# EAGLE library part NHD-C0216CIZ (library logic-supply)
Newhaven Display NHD-C0216CIZ I2C 16x2 character LCD.
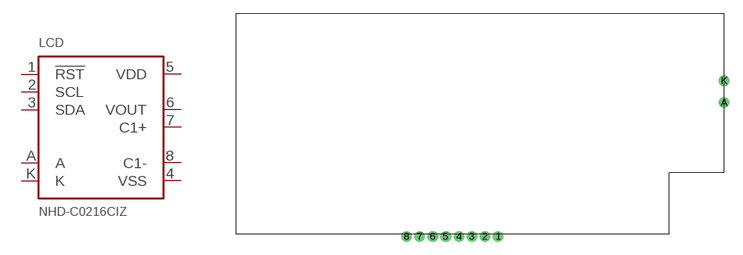
[diagram p42: symbol with the pads of NHD-C0216CIZ; footprint NHD-C0216CIZ]

Designator prefix LCD

## NHD-C0216CIZ  [NHD-C0216CIZ]
1  !RST
2  SCL
3  SDA
4  VSS  pwr
5  VDD  pwr
6  VOUT
7  C1+
8  C1-
A  A
K  K

## Footprint NHD-C0216CIZ (pad centres in mm)
drill 0.635 pad 1.22: 1 10.5,0; 2 9,0; 3 7.5,0; 4 6,0; 5 4.5,0; 6 3,0; 7 1.5,0; 8 0,0; A 36.4,15.34; K 36.4,17.84